# Altium footprint library T4144015041-000.PcbLib: 1 footprints
Each footprint in its own frame and in the unit in brackets; x right, y up, seen from the top. Pads: shape width x height; smd on the part's side, far side on the other; paste and mask are expansions set on the pad; w line width, h text height; cw(c..) or ccw(c..) is an arc to the next point about the centre after c.
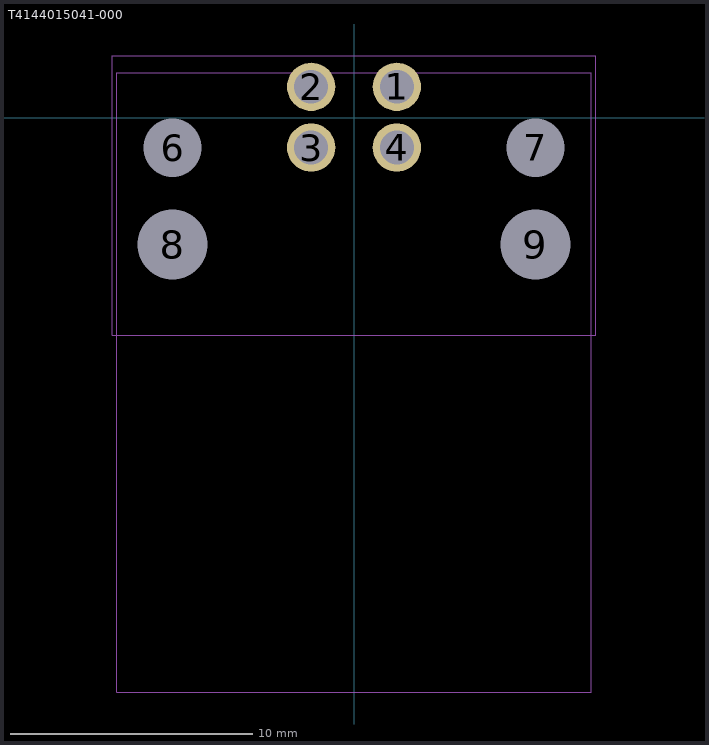
[diagram p0: the footprint, top view; thin cyan lines are the x and y axes]

## T4144015041-000 [mm]
pads (8):
  round 2 hole 1.4 mask+0.05: 1(1.77,1.27) 2(-1.77,1.27) 3(-1.77,-1.24) 4(1.77,-1.24)
  round 2 hole 2.4 unplated mask+0.05: 6(-7.5,-1.25) 7(7.5,-1.25)
  round 2.8 hole 2.9 unplated mask+0.05: 8(-7.5,-5.25) 9(7.5,-5.25)
Top Assembly:
  lines w0.05: -9.8,-23.75 -9.8,1.85 9.8,1.85 9.8,-23.75 -9.8,-23.75
Top Courtyard:
  lines w0.05: -10,-9 10,-9 10,2.55 -10,2.55 -10,-9
3D body "c-t4144015041-000-a-3d.stp": height 16, standoff -3.6, extent -9.8,-23.72 9.7,1.82